# EAGLE library part SN74LVC1G19 (library PatternAgents-TI)
1-OF-2 DECODER/DEMULTIPLEXER
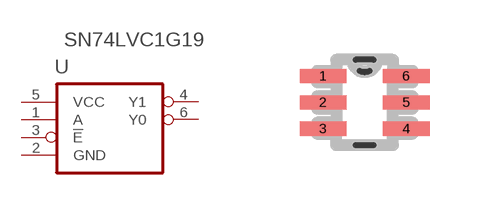
[diagram p12: symbol with the pads of SOT65P210X110-6N; footprint SOT65P210X110-6N]

Designator prefix U

## SN74LVC1G19-DCKR  [SOT65P210X110-6N]
1  A  in
2  GND  pas
3  !E  in
4  Y1  out
5  VCC  pwr
6  Y0  out

## Footprint SOT65P210X110-6N (pad centres in mm)
smd 1.168 x 0.356: 1 -1.041,0.66; 2 -1.041,0; 3 -1.041,-0.66; 4 1.041,-0.66; 5 1.041,0; 6 1.041,0.66